# Altium footprint library WR-WTB.PcbLib: 259 footprints (part 3 of 17)
Each footprint in its own frame and in the unit in brackets; x right, y up, seen from the top. Pads: shape width x height; smd on the part's side, far side on the other; paste and mask are expansions set on the pad; w line width, h text height; cw(c..) or ccw(c..) is an arc to the next point about the centre after c.
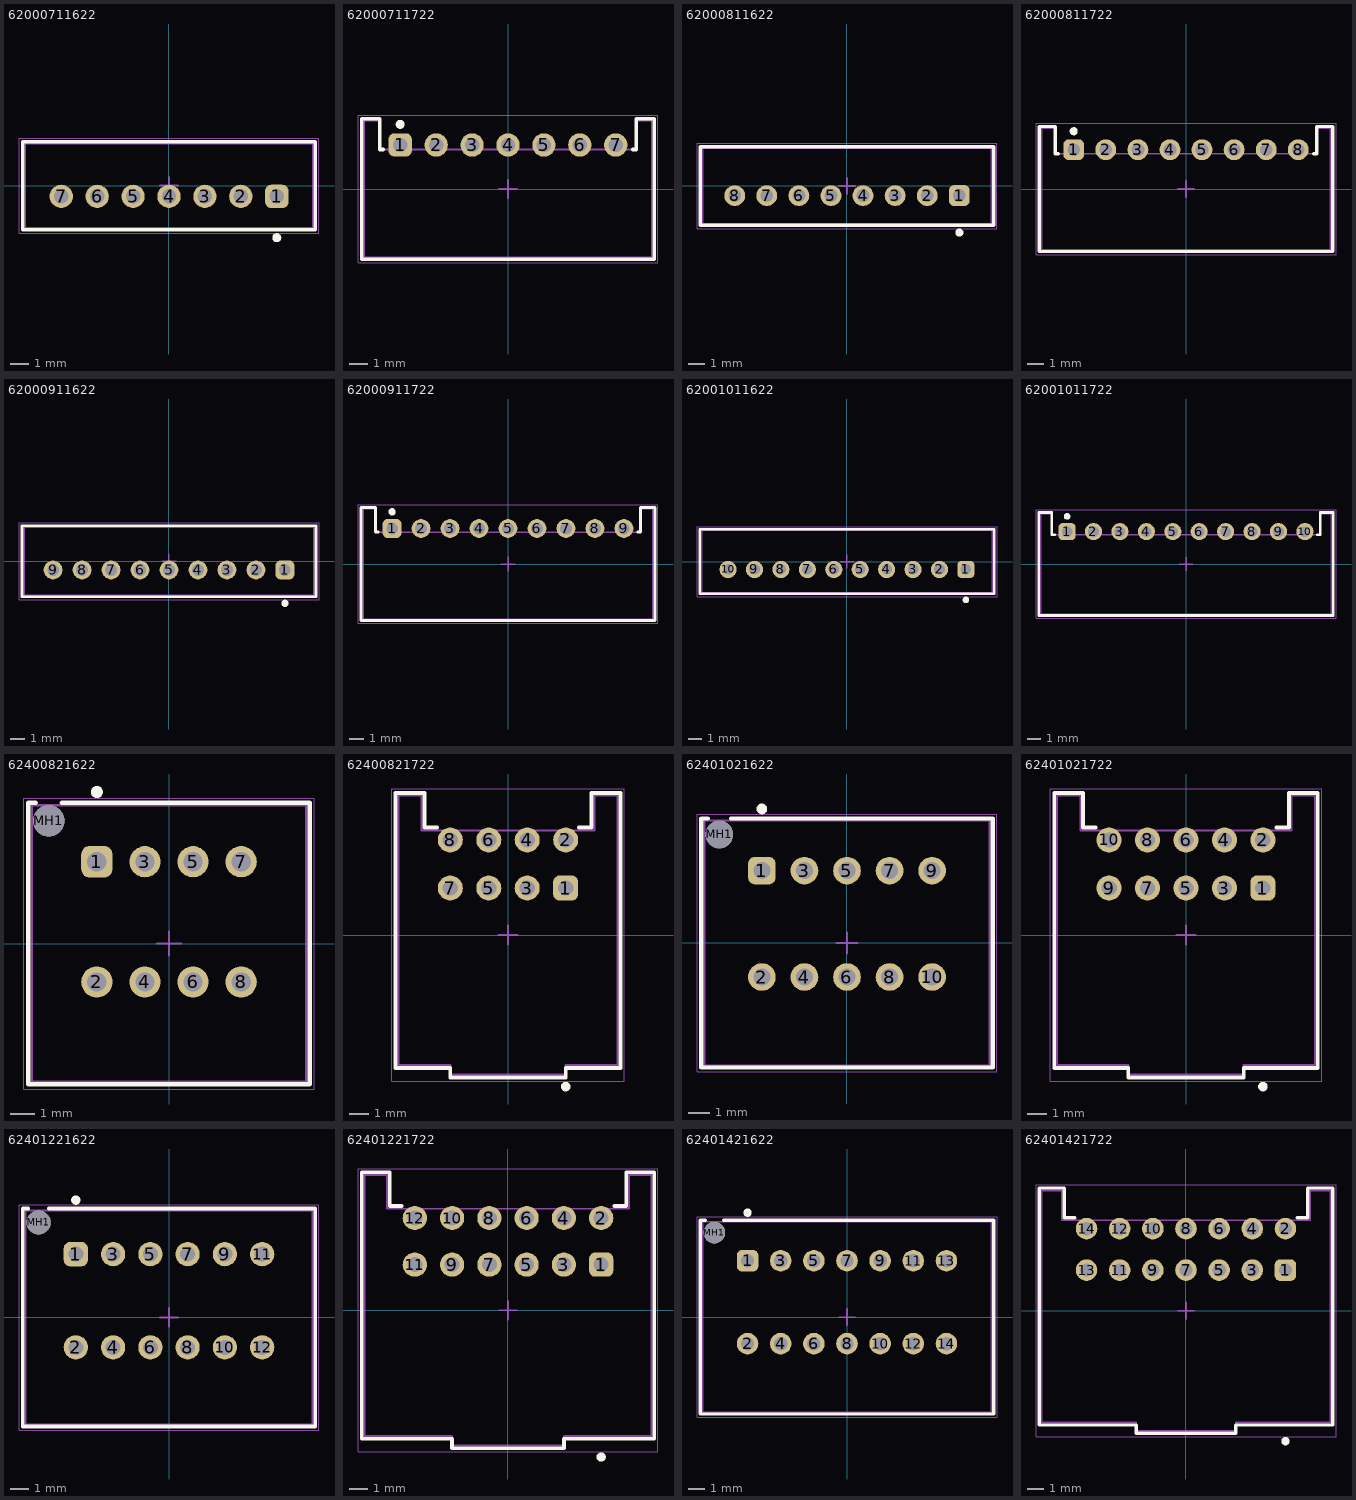
[diagram p2: the footprints below, top view; thin cyan lines are the x and y axes]

## 62000711622 [mm] "2.00mm Male Vertical Shrouded Header, 7p"
height 6.1
pads (7):
  rrect50% 1.3x1.3 hole 0.8: 1(6,-0.6)
  round 1.3 hole 0.8: 2(4,-0.6) 3(2,-0.6) 4(0,-0.6) 5(-2,-0.6) 6(-4,-0.6) 7(-6,-0.6)
Top Overlay:
  circle w0.25: c6,-2.9 r0.125
  lines w0.2: -8.15,-2.45 -8.15,2.45 8.15,2.45 8.15,-2.45 -8.15,-2.45
Top Assembly:
  lines w0.1: -8,-2.35 8,-2.35 8,2.35 -8,2.35 -8,-2.35
Top Designator:
  text ".Designator" at -3.647,-0.357 h1
Top Courtyard:
  lines w0.05: -8.35,-2.65 -8.35,2.65 8.35,2.65 8.35,-2.65 -8.35,-2.65
Top Component Center:
  lines w0.1: -0.5,0 0.5,0 ; 0,-0.5 0,0.5
3D body "62000711622.stp": height 6.13, standoff -3.37, extent -8,-2.35 8,2.35

## 62000711722 [mm] "2.00mm Male Horizontal Shrouded Header, 7p"
height 4.5
pads (7):
  rrect50% 1.3x1.3 hole 0.8: 1(-6,2.45)
  round 1.3 hole 0.8: 2(-4,2.45) 3(-2,2.45) 4(0,2.45) 5(2,2.45) 6(4,2.45) 7(6,2.45)
Top Overlay:
  circle w0.25: c-6,3.6 r0.125
  lines w0.2: -6.95,2.2 -7.15,2.2 -7.15,3.9 -8.15,3.9 -8.15,-3.9 8.15,-3.9 8.15,3.9 7.15,3.9 7.15,2.2 6.95,2.2
Top Assembly:
  lines w0.1: -8,-3.8 8,-3.8 8,3.8 7.15,3.8 7.15,2.2 -7.15,2.2 -7.15,3.8 -8,3.8 -8,-3.8
Top Designator:
  text ".Designator" at -3.647,-0.357 h1
Top Courtyard:
  lines w0.05: -8.35,-4.1 -8.35,4.1 8.35,4.1 8.35,-4.1 -8.35,-4.1
Top Component Center:
  lines w0.1: -0.5,0 0.5,0 ; 0,-0.5 0,0.5
3D body "62000711722.stp": height 4.83, standoff -3.27, extent -8,-3.8 8,3.8

## 62000811622 [mm] "2.00mm Male Vertical Shrouded Header, 8p"
height 6.1
pads (8):
  rrect50% 1.3x1.3 hole 0.8: 1(7,-0.6)
  round 1.3 hole 0.8: 2(5,-0.6) 3(3,-0.6) 4(1,-0.6) 5(-1,-0.6) 6(-3,-0.6) 7(-5,-0.6) 8(-7,-0.6)
Top Overlay:
  circle w0.25: c7,-2.9 r0.125
  lines w0.2: -9.15,-2.45 9.15,-2.45 9.15,2.45 -9.15,2.45 -9.15,-2.45
Top Assembly:
  lines w0.1: -9,-2.35 -9,2.35 9,2.35 9,-2.35 -9,-2.35
Top Designator:
  text ".Designator" at -3.647,-0.357 h1
Top Courtyard:
  lines w0.05: -9.35,-2.65 9.35,-2.65 9.35,2.65 -9.35,2.65 -9.35,-2.65
Top Component Center:
  lines w0.1: -0.5,0 0.5,0 ; 0,-0.5 0,0.5
3D body "62000811622.stp": height 6.13, standoff -3.37, extent -9,-2.35 9,2.35

## 62000811722 [mm] "2.00mm Male Horizontal Shrouded Header, 8p"
height 4.5
pads (8):
  rrect50% 1.3x1.3 hole 0.8: 1(-7,2.45)
  round 1.3 hole 0.8: 2(-5,2.45) 3(-3,2.45) 4(-1,2.45) 5(1,2.45) 6(3,2.45) 7(5,2.45) 8(7,2.45)
Top Overlay:
  circle w0.25: c-7,3.6 r0.125
  lines w0.2: -7.95,2.2 -8.15,2.2 -8.15,3.9 -9.15,3.9 -9.15,-3.9 9.15,-3.9 9.15,3.9 8.15,3.9 8.15,2.2 7.95,2.2
Top Assembly:
  lines w0.1: -9,-3.8 9,-3.8 9,3.8 8.15,3.8 8.15,2.2 -8.15,2.2 -8.15,3.8 -9,3.8 -9,-3.8
Top Designator:
  text ".Designator" at -3.647,-0.357 h1
Top Courtyard:
  lines w0.05: -9.35,-4.1 -9.35,4.1 9.35,4.1 9.35,-4.1 -9.35,-4.1
Top Component Center:
  lines w0.1: -0.5,0 0.5,0 ; 0,-0.5 0,0.5
3D body "62000811722.stp": height 4.83, standoff -3.27, extent -9,-3.8 9,3.8

## 62000911622 [mm] "2.00mm Male Vertical Shrouded Header, 9p"
height 6.1
pads (9):
  rrect50% 1.3x1.3 hole 0.8: 1(8,-0.6)
  round 1.3 hole 0.8: 2(6,-0.6) 3(4,-0.6) 4(2,-0.6) 5(0,-0.6) 6(-2,-0.6) 7(-4,-0.6) 8(-6,-0.6) 9(-8,-0.6)
Top Overlay:
  circle w0.25: c8,-2.9 r0.125
  lines w0.2: -10.15,-2.45 10.15,-2.45 10.15,2.45 -10.15,2.45 -10.15,-2.45
Top Assembly:
  lines w0.1: -10,-2.35 -10,2.35 10,2.35 10,-2.35 -10,-2.35
Top Designator:
  text ".Designator" at -3.647,-0.357 h1
Top Courtyard:
  lines w0.05: -10.35,-2.65 10.35,-2.65 10.35,2.65 -10.35,2.65 -10.35,-2.65
Top Component Center:
  lines w0.1: -0.5,0 0.5,0 ; 0,-0.5 0,0.5
3D body "62000911622.stp": height 6.13, standoff -3.37, extent -10,-2.35 10,2.35

## 62000911722 [mm] "2.00mm Male Horizontal Shrouded Header, 9p"
height 4.5
pads (9):
  rrect50% 1.3x1.3 hole 0.8: 1(-8,2.45)
  round 1.3 hole 0.8: 2(-6,2.45) 3(-4,2.45) 4(-2,2.45) 5(0,2.45) 6(2,2.45) 7(4,2.45) 8(6,2.45) 9(8,2.45)
Top Overlay:
  circle w0.25: c-8,3.6 r0.125
  lines w0.2: -8.95,2.2 -9.15,2.2 -9.15,3.9 -10.15,3.9 -10.15,-3.9 10.15,-3.9 10.15,3.9 9.15,3.9 9.15,2.2 8.95,2.2
Top Assembly:
  lines w0.1: -10,-3.8 -10,3.8 -9.15,3.8 -9.15,2.2 9.15,2.2 9.15,3.8 10,3.8 10,-3.8 -10,-3.8
Top Designator:
  text ".Designator" at -3.647,-0.357 h1
Top Courtyard:
  lines w0.05: -10.35,-4.1 10.35,-4.1 10.35,4.1 -10.35,4.1 -10.35,-4.1
Top Component Center:
  lines w0.1: -0.5,0 0.5,0 ; 0,-0.5 0,0.5
3D body "62000911722.stp": height 4.83, standoff -3.27, extent -10,-3.8 10,3.8

## 62001011622 [mm] "2.00mm Male Vertical Shrouded Header, 10p"
height 6.1
pads (10):
  rrect50% 1.3x1.3 hole 0.8: 1(9,-0.6)
  round 1.3 hole 0.8: 2(7,-0.6) 3(5,-0.6) 4(3,-0.6) 5(1,-0.6) 6(-1,-0.6) 7(-3,-0.6) 8(-5,-0.6) 9(-7,-0.6) 10(-9,-0.6)
Top Overlay:
  circle w0.25: c9,-2.9 r0.125
  lines w0.2: -11.15,-2.45 11.15,-2.45 11.15,2.45 -11.15,2.45 -11.15,-2.45
Top Assembly:
  lines w0.1: -11,-2.35 -11,2.35 11,2.35 11,-2.35 -11,-2.35
Top Designator:
  text ".Designator" at -3.647,-0.357 h1
Top Courtyard:
  lines w0.05: -11.35,-2.65 11.35,-2.65 11.35,2.65 -11.35,2.65 -11.35,-2.65
Top Component Center:
  lines w0.1: -0.5,0 0.5,0 ; 0,-0.5 0,0.5
3D body "62001011622.stp": height 6.13, standoff -3.37, extent -11,-2.35 11,2.35

## 62001011722 [mm] "2.00mm Male Horizontal Shrouded Header, 10p"
height 4.5
pads (10):
  rrect50% 1.3x1.3 hole 0.8: 1(-9,2.45)
  round 1.3 hole 0.8: 2(-7,2.45) 3(-5,2.45) 4(-3,2.45) 5(-1,2.45) 6(1,2.45) 7(3,2.45) 8(5,2.45) 9(7,2.45) 10(9,2.45)
Top Overlay:
  circle w0.25: c-9,3.6 r0.125
  lines w0.2: -9.95,2.2 -10.15,2.2 -10.15,3.9 -11.15,3.9 -11.15,-3.9 11.15,-3.9 11.15,3.9 10.15,3.9 10.15,2.2 9.95,2.2
Top Assembly:
  lines w0.1: -11,-3.8 -11,3.8 -10.15,3.8 -10.15,2.2 10.15,2.2 10.15,3.8 11,3.8 11,-3.8 -11,-3.8
Top Designator:
  text ".Designator" at -3.647,-0.357 h1
Top Courtyard:
  lines w0.05: -11.35,-4.1 11.35,-4.1 11.35,4.1 -11.35,4.1 -11.35,-4.1
Top Component Center:
  lines w0.1: -0.5,0 0.5,0 ; 0,-0.5 0,0.5
3D body "62001011722.stp": height 4.83, standoff -3.27, extent -11,-3.8 11,3.8

## 62400821622 [mm] "2.00mm Male Dual Row Vertical Shrouded Header with positive locking, 8p"
height 11.6
pads (9):
  rrect50% 1.3x1.3 hole 0.8: 1(-3,3.4)
  round 1.3 hole 0.8: 2(-3,-1.6) 3(-1,3.4) 4(-1,-1.6) 5(1,3.4) 6(1,-1.6) 7(3,3.4) 8(3,-1.6)
  round 1.3 hole 1.3 unplated: MH1(-5,5.1)
Top Overlay:
  circle w0.25: c-3,6.3 r0.125
  lines w0.2: -5.55,5.85 -5.85,5.85 -5.85,-5.85 5.85,-5.85 5.85,5.85 -4.45,5.85
Top Assembly:
  lines w0.1: -5.7,-5.75 -5.7,5.75 ; -5.7,-5.75 5.7,-5.75 5.7,5.75 -5.7,5.75 ; -5.7,-5.75 -5.7,5.75
Top Designator:
  text ".Designator" at -3.647,-0.357 h1
Top Courtyard:
  lines w0.05: -6.05,-6.05 6.05,-6.05 6.05,6.05 -6.05,6.05 -6.05,-6.05
Top Component Center:
  lines w0.1: -0.5,0 0.5,0 ; 0,-0.5 0,0.5
3D body "62400821622.stp": height 9.78, standoff -3.17, extent -5.7,-5.75 5.7,5.75

## 62400821722 [mm] "2.00mm Male Dual Row Horizontal Shrouded Header with positive locking, 8p"
height 11.7
pads (8):
  rrect50% 1.3x1.3 hole 0.8: 1(3,2.45)
  round 1.3 hole 0.8: 2(3,4.95) 3(1,2.45) 4(1,4.95) 5(-1,2.45) 6(-1,4.95) 7(-3,2.45) 8(-3,4.95)
Top Overlay:
  circle w0.25: c3,-7.875 r0.125
  lines w0.2: -3.7,5.6 -4.35,5.6 -4.35,7.4 -5.85,7.4 -5.85,-6.9 -3,-6.9 -3,-7.4 3,-7.4 3,-6.9 5.85,-6.9 5.85,7.4 4.35,7.4 4.35,5.6 3.7,5.6
Top Assembly:
  lines w0.1: -5.7,-6.75 -5.7,7.25 -4.5,7.25 -4.5,5.45 4.5,5.45 4.5,7.25 5.7,7.25 5.7,-6.75 3,-6.75 3,-7.25 -3,-7.25 -3,-6.75 -5.7,-6.75
Top Designator:
  text ".Designator" at -3.647,-0.357 h1
Top Courtyard:
  lines w0.05: -6.05,-7.6 -6.05,7.6 6.05,7.6 6.05,-7.6 -6.05,-7.6
Top Component Center:
  lines w0.1: -0.5,0 0.5,0 ; 0,-0.5 0,0.5
3D body "62400821722.stp": height 11.73, standoff -3.17, extent -5.7,-7.25 5.7,7.25

## 62401021622 [mm] "2.00mm Male Dual Row Vertical Shrouded Header with positive locking, 10p"
height 11.6
pads (11):
  rrect50% 1.3x1.3 hole 0.8: 1(-4,3.4)
  round 1.3 hole 0.8: 2(-4,-1.6) 3(-2,3.4) 4(-2,-1.6) 5(0,3.4) 6(0,-1.6) 7(2,3.4) 8(2,-1.6) 9(4,3.4) 10(4,-1.6)
  round 1.3 hole 1.3 unplated: MH1(-6,5.1)
Top Overlay:
  circle w0.25: c-4,6.3 r0.125
  lines w0.2: -6.55,5.85 -6.85,5.85 -6.85,-5.85 6.85,-5.85 6.85,5.85 -5.45,5.85
Top Assembly:
  lines w0.1: -6.7,-5.75 -6.7,5.75 ; -6.7,-5.75 6.7,-5.75 6.7,5.75 -6.7,5.75 ; -6.7,-5.75 -6.7,5.75
Top Designator:
  text ".Designator" at -3.647,-0.357 h1
Top Courtyard:
  lines w0.05: -7.05,-6.05 -7.05,6.05 7.05,6.05 7.05,-6.05 -7.05,-6.05
Top Component Center:
  lines w0.1: -0.5,0 0.5,0 ; 0,-0.5 0,0.5
3D body "62401021622.stp": height 9.78, standoff -3.17, extent -6.7,-5.75 6.7,5.75

## 62401021722 [mm] "2.00mm Male Dual Row Horizontal Shrouded Header with positive locking, 10p"
height 11.7
pads (10):
  rrect50% 1.3x1.3 hole 0.8: 1(4,2.45)
  round 1.3 hole 0.8: 2(4,4.95) 3(2,2.45) 4(2,4.95) 5(0,2.45) 6(0,4.95) 7(-2,2.45) 8(-2,4.95) 9(-4,2.45) 10(-4,4.95)
Top Overlay:
  circle w0.25: c4,-7.875 r0.125
  lines w0.2: -4.7,5.6 -5.35,5.6 -5.35,7.4 -6.85,7.4 -6.85,-6.9 -3,-6.9 -3,-7.4 3,-7.4 3,-6.9 6.85,-6.9 6.85,7.4 5.35,7.4 5.35,5.6 4.7,5.6
Top Assembly:
  lines w0.1: -6.7,-6.75 -3,-6.75 -3,-7.25 3,-7.25 3,-6.75 6.7,-6.75 6.7,7.25 5.5,7.25 5.5,5.45 -5.5,5.45 -5.5,7.25 -6.7,7.25 -6.7,-6.75
Top Designator:
  text ".Designator" at -3.647,-0.357 h1
Top Courtyard:
  lines w0.05: -7.05,-7.6 7.05,-7.6 7.05,7.6 -7.05,7.6 -7.05,-7.6
Top Component Center:
  lines w0.1: -0.5,0 0.5,0 ; 0,-0.5 0,0.5
3D body "62401021722.stp": height 11.73, standoff -3.17, extent -6.7,-7.25 6.7,7.25

## 62401221622 [mm] "2.00mm Male Dual Row Vertical Shrouded Header with positive locking, 12p"
height 11.6
pads (13):
  rrect50% 1.3x1.3 hole 0.8: 1(-5,3.4)
  round 1.3 hole 0.8: 2(-5,-1.6) 3(-3,3.4) 4(-3,-1.6) 5(-1,3.4) 6(-1,-1.6) 7(1,3.4) 8(1,-1.6) 9(3,3.4) 10(3,-1.6) 11(5,3.4) 12(5,-1.6)
  round 1.3 hole 1.3 unplated: MH1(-7,5.1)
Top Overlay:
  circle w0.25: c-5,6.3 r0.125
  lines w0.2: -7.55,5.85 -7.85,5.85 -7.85,-5.85 7.85,-5.85 7.85,5.85 -6.45,5.85
Top Assembly:
  lines w0.1: -7.7,-5.75 -7.7,5.75 ; -7.7,-5.75 7.7,-5.75 7.7,5.75 -7.7,5.75 ; -7.7,-5.75 -7.7,5.75
Top Designator:
  text ".Designator" at -3.647,-0.357 h1
Top Courtyard:
  lines w0.05: -8.05,-6.05 8.05,-6.05 8.05,6.05 -8.05,6.05 -8.05,-6.05
Top Component Center:
  lines w0.1: -0.5,0 0.5,0 ; 0,-0.5 0,0.5
3D body "62401221622.stp": height 9.78, standoff -3.17, extent -7.7,-5.75 7.7,5.75

## 62401221722 [mm] "2.00mm Male Dual Row Horizontal Shrouded Header with positive locking, 12p"
height 11.7
pads (12):
  rrect50% 1.3x1.3 hole 0.8: 1(5,2.45)
  round 1.3 hole 0.8: 2(5,4.95) 3(3,2.45) 4(3,4.95) 5(1,2.45) 6(1,4.95) 7(-1,2.45) 8(-1,4.95) 9(-3,2.45) 10(-3,4.95) 11(-5,2.45) 12(-5,4.95)
Top Overlay:
  circle w0.25: c5,-7.875 r0.125
  lines w0.2: -5.7,5.6 -6.35,5.6 -6.35,7.4 -7.85,7.4 -7.85,-6.9 -3,-6.9 -3,-7.4 3,-7.4 3,-6.9 7.85,-6.9 7.85,7.4 6.35,7.4 6.35,5.6 5.7,5.6
Top Assembly:
  lines w0.1: -7.7,-6.75 -3,-6.75 -3,-7.25 3,-7.25 3,-6.75 7.7,-6.75 7.7,7.25 6.5,7.25 6.5,5.45 -6.5,5.45 -6.5,7.25 -7.7,7.25 -7.7,-6.75
Top Designator:
  text ".Designator" at -3.647,-0.357 h1
Top Courtyard:
  lines w0.05: -8.05,-7.6 8.05,-7.6 8.05,7.6 -8.05,7.6 -8.05,-7.6
Top Component Center:
  lines w0.1: -0.5,0 0.5,0 ; 0,-0.5 0,0.5
3D body "62401221722.stp": height 11.73, standoff -3.17, extent -7.7,-7.25 7.7,7.25

## 62401421622 [mm] "2.00mm Male Dual Row Vertical Shrouded Header with positive locking, 14p"
height 11.6
pads (15):
  rrect50% 1.3x1.3 hole 0.8: 1(-6,3.4)
  round 1.3 hole 0.8: 2(-6,-1.6) 3(-4,3.4) 4(-4,-1.6) 5(-2,3.4) 6(-2,-1.6) 7(0,3.4) 8(0,-1.6) 9(2,3.4) 10(2,-1.6) 11(4,3.4) 12(4,-1.6) 13(6,3.4) 14(6,-1.6)
  round 1.3 hole 1.3 unplated: MH1(-8,5.1)
Top Overlay:
  circle w0.25: c-6,6.3 r0.125
  lines w0.2: -8.55,5.85 -8.85,5.85 -8.85,-5.85 8.85,-5.85 8.85,5.85 -7.45,5.85
Top Assembly:
  lines w0.1: -8.7,-5.75 -8.7,5.75 ; -8.7,-5.75 8.7,-5.75 8.7,5.75 -8.7,5.75 ; -8.7,-5.75 -8.7,5.75
Top Designator:
  text ".Designator" at -3.647,-0.357 h1
Top Courtyard:
  lines w0.05: -9.05,-6.05 9.05,-6.05 9.05,6.05 -9.05,6.05 -9.05,-6.05
Top Component Center:
  lines w0.1: -0.5,0 0.5,0 ; 0,-0.5 0,0.5
3D body "62401421622.stp": height 9.78, standoff -3.17, extent -8.7,-5.75 8.7,5.75

## 62401421722 [mm] "2.00mm Male Dual Row Horizontal Shrouded Header with positive locking, 14p"
height 11.7
pads (14):
  rrect50% 1.3x1.3 hole 0.8: 1(6,2.45)
  round 1.3 hole 0.8: 2(6,4.95) 3(4,2.45) 4(4,4.95) 5(2,2.45) 6(2,4.95) 7(0,2.45) 8(0,4.95) 9(-2,2.45) 10(-2,4.95) 11(-4,2.45) 12(-4,4.95) 13(-6,2.45) 14(-6,4.95)
Top Overlay:
  circle w0.25: c6,-7.875 r0.125
  lines w0.2: -6.7,5.6 -7.35,5.6 -7.35,7.4 -8.85,7.4 -8.85,-6.9 -3,-6.9 -3,-7.4 3,-7.4 3,-6.9 8.85,-6.9 8.85,7.4 7.35,7.4 7.35,5.6 6.7,5.6
Top Assembly:
  lines w0.1: -8.7,-6.75 -8.7,7.25 -7.5,7.25 -7.5,5.45 7.5,5.45 7.5,7.25 8.7,7.25 8.7,-6.75 3,-6.75 3,-7.25 -3,-7.25 -3,-6.75 -8.7,-6.75
Top Designator:
  text ".Designator" at -3.647,-0.357 h1
Top Courtyard:
  lines w0.05: -9.05,-7.6 -9.05,7.6 9.05,7.6 9.05,-7.6 -9.05,-7.6
Top Component Center:
  lines w0.1: -0.5,0 0.5,0 ; 0,-0.5 0,0.5
3D body "62401421722.stp": height 11.73, standoff -3.17, extent -8.7,-7.25 8.7,7.25